# Altium footprint library Microver.PcbLib: 18 footprints (part 2 of 2)
Each footprint in its own frame and in the unit in brackets; x right, y up, seen from the top. Pads: shape width x height; smd on the part's side, far side on the other; paste and mask are expansions set on the pad; w line width, h text height; cw(c..) or ccw(c..) is an arc to the next point about the centre after c.
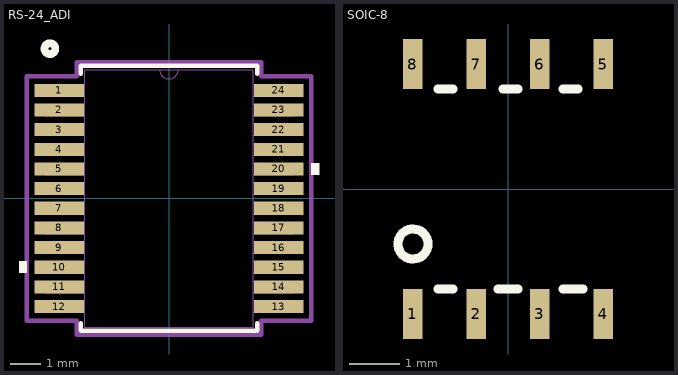
[diagram p1: the footprints below, top view; thin cyan lines are the x and y axes]

## RS-24_ADI [mil]
pads (24):
  rect 64.56x16.97 smd paste+0 mask+0: 1(-143,140.75) 2(-143,115.16) 3(-143,89.57) 4(-143,63.98) 5(-143,38.39) 6(-143,12.8) 7(-143,-12.8) 8(-143,-38.39) 9(-143,-63.98) 10(-143,-89.57) 11(-143,-115.16) 12(-143,-140.75) 13(143,-140.75) 14(143,-115.16) 15(143,-89.57) 16(143,-63.98) 17(143,-38.39) 18(143,-12.8) 19(143,12.8) 20(143,38.39) 21(143,63.98) 22(143,89.57) 23(143,115.16) 24(143,140.75)
Top Overlay:
  circle w10: c-155,195 r7.07
  region: -185.28,-82.07 -195.28,-82.07 -195.28,-97.07 -185.28,-97.07
  region: 185.28,45.89 195.28,45.89 195.28,30.89 185.28,30.89
  lines w6: -115,-162.33 -115,-172.5 115,-172.5 115,-162.33 ; -115,162.33 -115,172.5 115,172.5 115,162.33
Mechanical 13:
  lines w0: -12,167.5 ccw(c0,167.5) 12,167.5
  lines w1: -161.5,-148.25 -161.5,-133.25 -110,-133.25 -110,-148.25 -161.5,-148.25 ; -161.5,-122.66 -161.5,-107.66 -110,-107.66 -110,-122.66 -161.5,-122.66 ; -161.5,-97.07 -161.5,-82.07 -110,-82.07 -110,-97.07 -161.5,-97.07 ; -161.5,-71.48 -161.5,-56.48 -110,-56.48 -110,-71.48 -161.5,-71.48 ; -161.5,-45.89 -161.5,-30.89 -110,-30.89 -110,-45.89 -161.5,-45.89 ; -161.5,-20.3 -161.5,-5.3 -110,-5.3 -110,-20.3 -161.5,-20.3 ; -161.5,5.3 -161.5,20.3 -110,20.3 -110,5.3 -161.5,5.3 ; -161.5,30.89 -161.5,45.89 -110,45.89 -110,30.89 -161.5,30.89 ; -161.5,56.48 -161.5,71.48 -110,71.48 -110,56.48 -161.5,56.48 ; -161.5,82.07 -161.5,97.07 -110,97.07 -110,82.07 -161.5,82.07 ; -161.5,107.66 -161.5,122.66 -110,122.66 -110,107.66 -161.5,107.66 ; -161.5,133.25 -161.5,148.25 -110,148.25 -110,133.25 -161.5,133.25 ; -110,-167.5 110,-167.5 110,167.5 -110,167.5 -110,-167.5 ; 110,-148.25 110,-133.25 161.5,-133.25 161.5,-148.25 110,-148.25 ; 110,-122.66 110,-107.66 161.5,-107.66 161.5,-122.66 110,-122.66 ; 110,-97.07 110,-82.07 161.5,-82.07 161.5,-97.07 110,-97.07 ; 110,-71.48 110,-56.48 161.5,-56.48 161.5,-71.48 110,-71.48 ; 110,-45.89 110,-30.89 161.5,-30.89 161.5,-45.89 110,-45.89 ; 110,-20.3 110,-5.3 161.5,-5.3 161.5,-20.3 110,-20.3 ; 110,5.3 110,20.3 161.5,20.3 161.5,5.3 110,5.3 ; 110,30.89 110,45.89 161.5,45.89 161.5,30.89 110,30.89 ; 110,56.48 110,71.48 161.5,71.48 161.5,56.48 110,56.48 ; 110,82.07 110,97.07 161.5,97.07 161.5,82.07 110,82.07 ; 110,107.66 110,122.66 161.5,122.66 161.5,107.66 110,107.66 ; 110,133.25 110,148.25 161.5,148.25 161.5,133.25 110,133.25
Mechanical 15:
  lines w6: -185.28,-159.23 -185.28,159.23 -120,159.23 -120,177.5 120,177.5 120,159.23 185.28,159.23 185.28,-159.23 120,-159.23 120,-177.5 -120,-177.5 -120,-159.23 -185.28,-159.23
3D body "RS-24_ADI.step": height 79.09, standoff 0, extent -161.5,-167.48 161.5,167.48

## SOIC-8 [mm]
pads (8):
  rect 0.4x1 smd: 1(-1.905,-2.5) 2(-0.635,-2.5) 3(0.635,-2.5) 4(1.905,-2.5) 5(1.905,2.5) 6(0.635,2.5) 7(-0.635,2.5) 8(-1.905,2.5)
Top Overlay:
  circle w0.18: c-1.9,-1.1 r0.3
  lines w0.18: -1.4,-2 -1.1,-2 ; -1.4,2 -1.1,2 ; -0.2,-2 0.2,-2 ; -0.1,2 0.2,2 ; 1.1,-2 1.5,-2 ; 1.1,2 1.4,2
3D body "step_temp.STEP": height 1.75, standoff 0, extent -2.45,-3 2.45,3